# Altium schematic symbol library takas.SchLib: 1 symbol
Pins are listed as number, name and electrical type; pins without a type are passive.

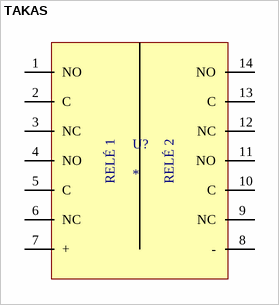
[diagram p0: symbol TAKAS]

## TAKAS
designator U?
pins: 1 NO, 2 C, 3 NC, 4 NO, 5 C, 6 NC, 7 +, 8 -, 9 NC, 10 C, 11 NO, 12 NC, 13 C, 14 NO
text: RELÉ 1; RELÉ 2